# Altium footprint library Connectors-V.PcbLib: 13 footprints
Each footprint in its own frame and in the unit in brackets; x right, y up, seen from the top. Pads: shape width x height; smd on the part's side, far side on the other; paste and mask are expansions set on the pad; w line width, h text height; cw(c..) or ccw(c..) is an arc to the next point about the centre after c.
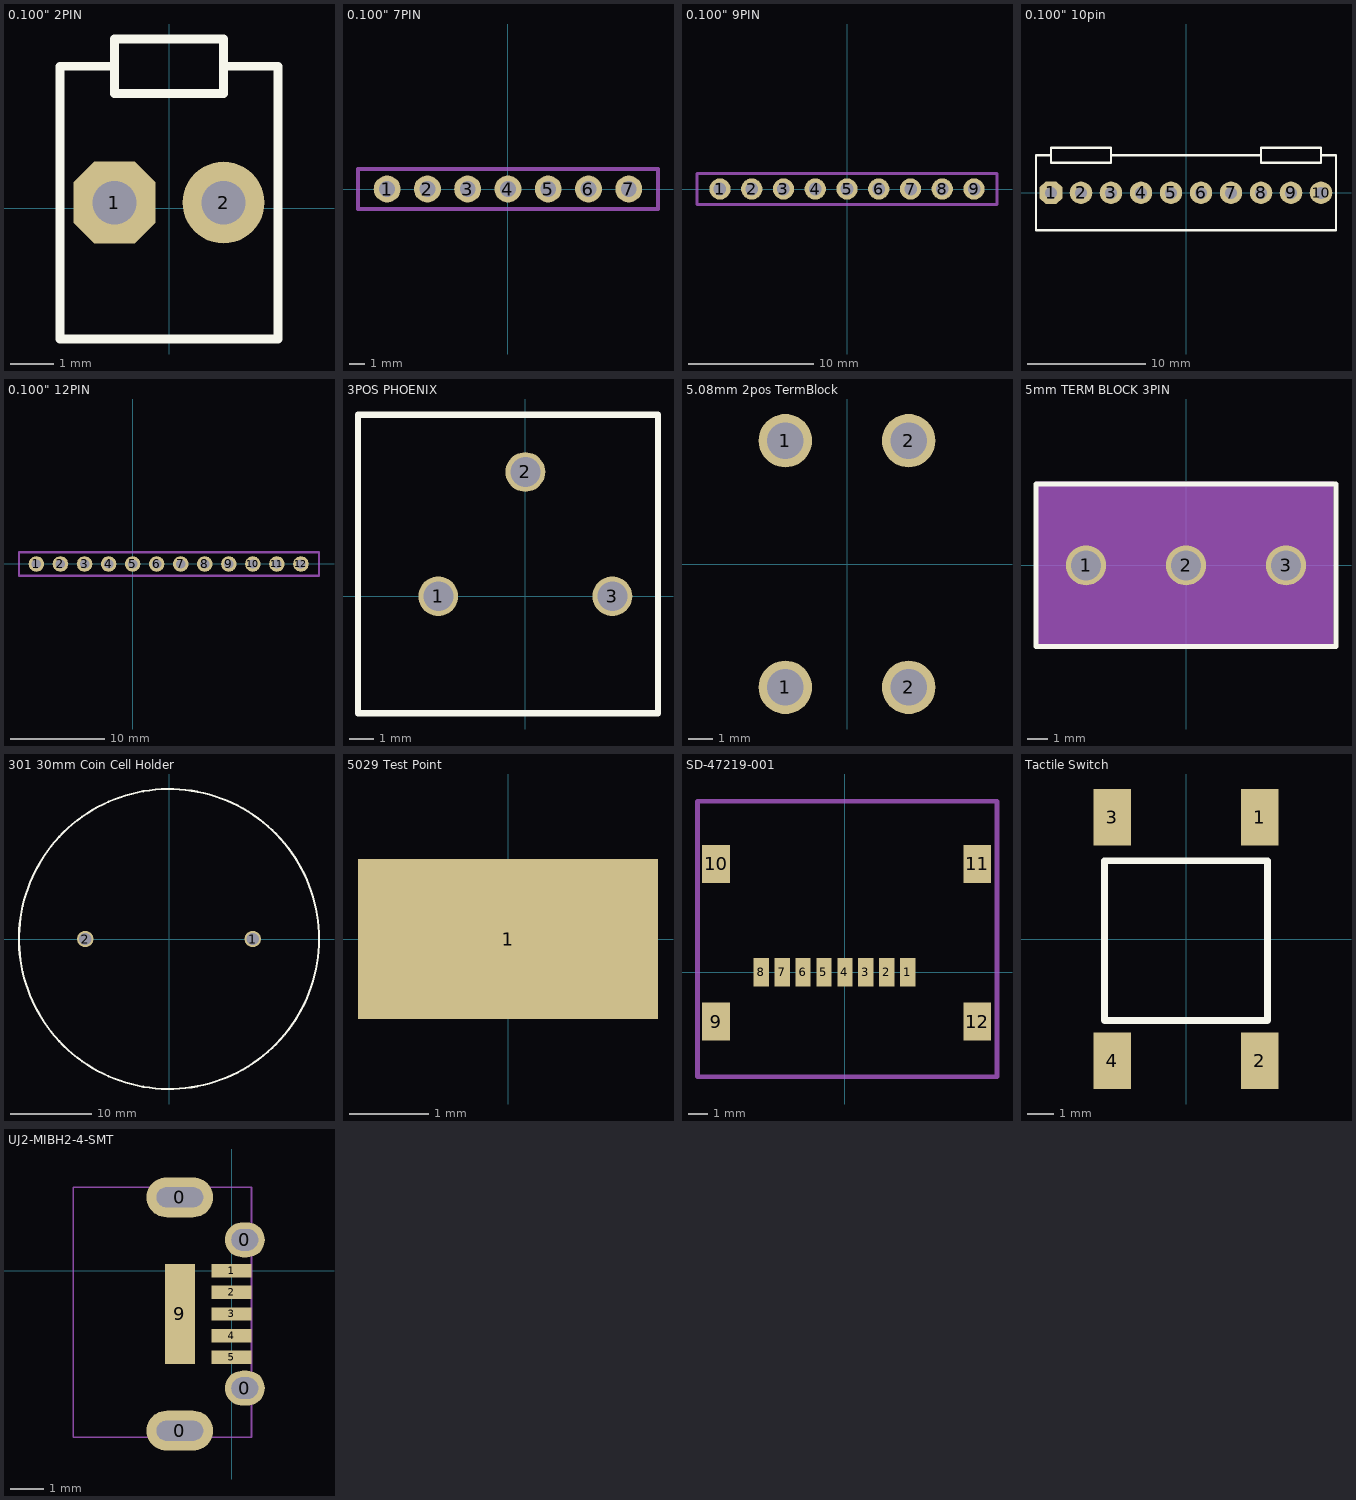
[diagram p0: the footprints below, top view; thin cyan lines are the x and y axes]

## 0.100" 2PIN [mil] "0.100\" MOLEX HEADER 2PIN"
pads (2):
  oct 75x75 hole 40: 1(-50,5)
  round 75 hole 40: 2(50,5)
Top Overlay:
  lines w8: -50,130 -50,105 50,105 50,130 ; -50,130 -50,155 50,155 50,130 ; -50,130 -100,130 -100,-120 100,-120 100,130 50,130
3D body "022272021.STEP": height 461.23, standoff -139.56, extent -100,-109.17 100,119.17

## 0.100" 7PIN [mm] "0.100\" FEMALE HEADER"
height 8.5
pads (7):
  round 1.7 hole 1: 1(-7.62,0) 2(-5.08,0) 3(-2.54,0) 4(0,0) 5(2.54,0) 6(5.08,0) 7(7.62,0)
Mechanical 15:
  lines w0.254: -9.46,-1.25 -9.46,1.25 9.465,1.25 9.465,-1.25 -9.46,-1.25
3D body: height 8.5, standoff 0, extent -9.46,-1.25 9.465,1.25

## 0.100" 9PIN [mm] "0.100\" FEMALE HEADER 9PIN"
height 8.5
pads (9):
  round 1.7 hole 1: 1(-10.16,0) 2(-7.62,0) 3(-5.08,0) 4(-2.54,0) 5(0,0) 6(2.54,0) 7(5.08,0) 8(7.62,0) 9(10.16,0)
Mechanical 15:
  lines w0.254: -12,-1.25 12,-1.25 12,1.25 -12,1.25 -12,-1.25
3D body: height 8.5, standoff 0, extent -12,-1.25 12,1.25

## 0.100" 10pin [mil] "0.100\" MOLEX HEADER 10PIN"
pads (10):
  oct 75x75 hole 40: 1(-450,0)
  round 75 hole 40: 2(-350,0) 3(-250,0) 4(-150,0) 5(-50,0) 6(50,0) 7(150,0) 8(250,0) 9(350,0) 10(450,0)
Top Overlay:
  lines w8: -250,125 250,125 ; -450,125 -450,100 -250,100 -250,150 -450,150 -450,125 ; -450,125 -500,125 -500,-125 500,-125 500,125 450,125 ; 450,125 450,100 250,100 250,150 450,150 450,125
3D body "022272101.STEP": height 461.23, standoff -139.56, extent -500,-114.17 500,114.17

## 0.100" 12PIN [mm] "0.100\" MOLEX HEADER 12PIN"
pads (12):
  round 1.65 hole 1: 1(-10.16,0) 2(-7.62,0) 3(-5.08,0) 4(-2.54,0) 5(0,0) 6(2.54,0) 7(5.08,0) 8(7.62,0) 9(10.16,0) 10(12.7,0) 11(15.24,0) 12(17.78,0)
Mechanical 15:
  lines w0.254: -12,-1.25 -12,1.25 19.685,1.25 19.685,-1.25 -12,-1.25
3D body: height 8.5, standoff 0, extent -11.811,-1.25 19.558,1.25

## 3POS PHOENIX [mm] "3POS,THD,TENSION CLAMP,PHOENIX CONTACT"
height 13.1
pads (3):
  round 1.6 hole 1.2: 1(-3.5,0) 2(0,5) 3(3.5,0)
Top Overlay:
  lines w0.254: -6.731,-4.7 -6.731,7.3 5.334,7.3 5.334,-4.7 -6.731,-4.7
3D body "pxc_1985205_04_PTSA-1-5-3-3-5-Z_3D.stp": height 13.1, standoff -3.5, extent -6.731,-4.73 5.269,7.27

## 5.08mm 2pos TermBlock [mm]
height 12.8
pads (4):
  round 2.2 hole 1.5: 1(-2.54,-5.08) 1(-2.54,5.08) 2(2.54,-5.08) 2(2.54,5.08)
3D body "pxc_1790283_03_MFKDSP-2-5-08_3D.stp": height 12.82, standoff -3.4, extent -6.55,-7.65 3.61,8.55

## 5mm TERM BLOCK 3PIN [mm] "5mm Pitch 3pin"
height 11.4
pads (3):
  round 2 hole 1.5: 1(-5,0) 2(0,0) 3(5,0)
Top Overlay:
  lines w0.254: -7.5,-4.064 -7.5,4.064 7.5,4.064 7.5,-4.064 -7.5,-4.064
Mechanical 15:
  rectangle: -7.493,-3.937 7.366,4.191
3D body: height 11.4, standoff 0, extent -7.62,-4.191 7.62,4.191

## 301 30mm Coin Cell Holder [mm] "30mm Coin Cell Holder"
height 8.5
pads (2):
  round 2 hole 1.52: 1(10.245,0) 2(-10.245,0)
Top Overlay:
  circle w0.254: c0,0 r18.35
3D body: height 8.5, standoff 0, extent -18.35,-18.345 18.35,18.345

## 5029 Test Point [mm] "Hook Type Test Point"
height 2.29
pads (1):
  rect 3.8x2.03 smd: 1(0,0)

## SD-47219-001 [mm] "Molex microSD Card Holder"
height 1.9
pads (12):
  rect 0.8x1.5 smd: 1(3.3,0) 2(2.2,0) 3(1.1,0) 4(0,0) 5(-1.1,0) 6(-2.2,0) 7(-3.3,0) 8(-4.4,0)
  rect 1.45x2 smd: 9(-6.78,-2.6) 10(-6.78,5.7) 11(6.97,5.7) 12(6.97,-2.6)
Mechanical 15:
  lines w0.254: -7.75,-5.5 8,-5.5 8,9 -7.75,9 -7.75,-5.5
3D body "472192001.stp": height 1.06, standoff -0.83, extent -7.05,-5.6 7.55,8.9

## Tactile Switch [mm] "FSM2JSMAA"
height 4.3
pads (4):
  rect 1.4x2.1 smd: 1(2.75,4.55) 2(2.75,-4.55) 3(-2.75,4.55) 4(-2.75,-4.55)
Top Overlay:
  lines w0.254: -3.048,-3.048 3.048,-3.048 3.048,2.921 -3.048,2.921 -3.048,-3.048

## UJ2-MIBH2-4-SMT [mm] "USB MICRO-B Jack"
pads (10):
  oval 2x1.2 hole 0.6 slot 1.4 at 0 deg: 0(-1.55,-4.8) 0(-1.55,2.2)
  oval 1.2x1.05 hole 0.65 slot 0.8 at 0 deg: 0(0.4,-3.525) 0(0.4,0.925)
  rect 1.2x0.4 smd: 1(0,0) 2(0,-0.65) 3(0,-1.3) 4(0,-1.95) 5(0,-2.6)
  rect 0.9x3 smd: 9(-1.55,-1.3)
Mechanical 15:
  lines w0.05: -4.6,-5 0.6,-5 0.6,2.5 -4.75,2.5 -4.75,-5 -0.5,-5
3D body "CUI_UJ2-MIBH2-4-SMT.step": height 2.76, standoff -0.65, extent -4.75,-5 0.545,2.5